# Altium footprint library CN_PST 1_0_4-3_5.PcbLib: 1 footprints
Each footprint in its own frame and in the unit in brackets; x right, y up, seen from the top. Pads: shape width x height; smd on the part's side, far side on the other; paste and mask are expansions set on the pad; w line width, h text height; cw(c..) or ccw(c..) is an arc to the next point about the centre after c.
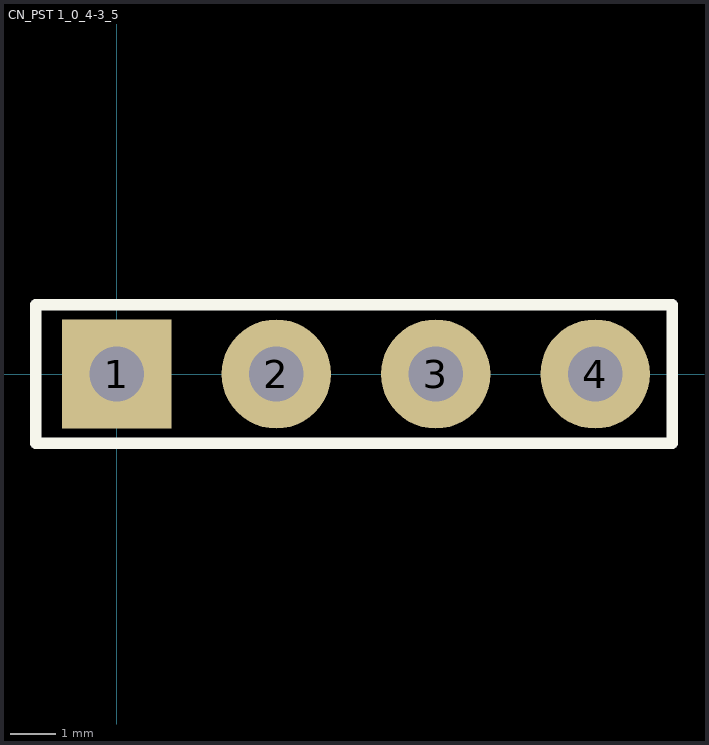
[diagram p0: the footprint, top view; thin cyan lines are the x and y axes]

## CN_PST 1_0_4-3_5 [mm] "1945119 PST 1,0/ 4-3,5"
pads (4):
  rect 2.4x2.4 hole 1.2: 1(0,0)
  round 2.4 hole 1.2: 2(3.5,0) 3(7,0) 4(10.5,0)
Top Overlay:
  lines w0.254: -1.778,-1.524 12.192,-1.524 12.192,1.524 -1.778,1.524 -1.778,-1.524
3D body: height 9.2, standoff -3.8, extent -1.75,-1.4 12.25,1.4